# Altium schematic symbol library SS14.Schlib: 1 symbol
Pins are listed as number, name and electrical type; pins without a type are passive.

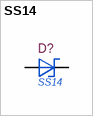
[diagram p0: symbol SS14]

## SS14
designator D?
40V 1A 550mV @ 1A SMA(DO-214AC) Schottky Barrier Diodes (SBD) RoHS; Manufacturer 1: ON Semiconductor / Fairchild; Element Configuration: Single; Forward Voltage: 500mV; Peak Reverse Current: 200uA; Max Forward Surge Current (Ifsm): 40A; Polarity: Standard; Max Power Dissipation: 1.1W; Number of Elements: 1; Supplier 1: Digi-Key; Manufacturer Part Number 1: SS14; Stock 1: 334358; Pricing 1: 1=0.39000, 10=0.31900, 100=0.16910, 500=0.11122, 1000=0.07563 (USD); RoHS: Yes; Mount: Surface Mount; Case/Package: SMA; Number of Pins: 2; Weight: 0.003739oz; Number of Terminals: 2; Min Operating Temperature: -65°C; Max Operating Temperature: 125°C; Packaging: Tape and Reel; Package Quantity: 7500; Max Repetitive Reverse Voltage (Vrrm): 40V; Forward Current: 1A; Current Rating: 1A; Peak Non-Repetitive Surge Current: 40A; Voltage Rating (DC): 40V; Termination: SMD/SMT; Average Rectified Current: 1A; Max Reverse Voltage (DC): 40V; Output Current: 1A; Current: 1A; Voltage: 40V; Power Dissipation: 1.1W; Length: 4.75mm; Height: 2.2mm; Width: 2.95mm; Radiation Hardening: No; Lead Free: Lead Free; REACH SVHC: No SVHC; Supplier Part Number 1: SS14CT-ND; LCSC Part #: C2480; JLCPCB Part Type: Basic; ComponentLink1Description: LCSC - MDD(Microdiode Electronics) SS14; ComponentLink1URL: https://lcsc.com/product-detail/Schottky-Barrier-Diodes-SBD_MDD-Microdiode-Electronics-SS14_C2480.html/?href=jlc-SMT
footprint SMA
pins: 1 A, 2 K